# Altium schematic symbol library ERJ-U6QJR47V.SchLib: 1 symbol
Pins are listed as number, name and electrical type; pins without a type are passive.

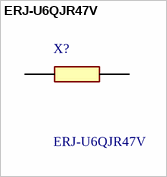
[diagram p0: symbol ERJ-U6QJR47V]

## ERJ-U6QJR47V
designator X?
Thick Film Resistors - SMD 0805 0.25W 5% .47ohms AEC-Q200; Manufacturer_Name: Panasonic; Geometry.Height: 0.65mm; Mouser Part Number: 667-ERJ-U6QJR47V; Mouser Price/Stock: https://www.mouser.co.uk/ProductDetail/Panasonic/ERJ-U6QJR47V?qs=5aG0NVq1C4wLyK2PwyO%252BIA%3D%3D; Manufacturer_Part_Number: ERJ-U6QJR47V; Datasheet Link: https://industrial.panasonic.com/cdbs/www-data/pdf/RDP0000/AOA0000C334.pdf
footprint RESC2012X65N
pins: 1, 2